# EAGLE library part PUSH_SW_ALT (library mylib2)
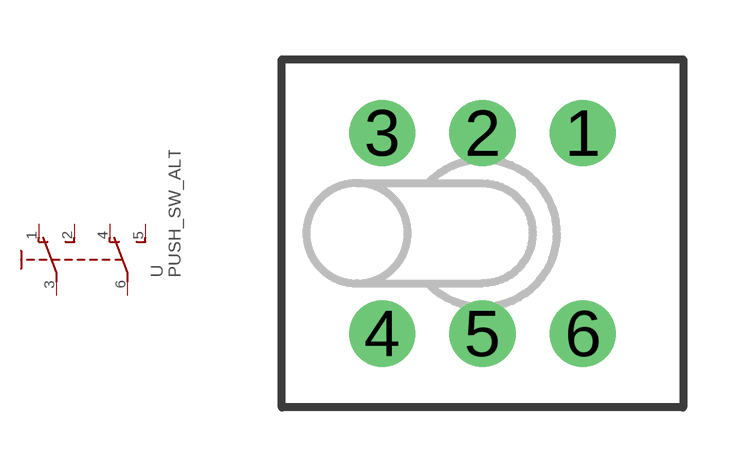
[diagram p9: symbol with the pads of PUSH_SW_ALT; footprint PUSH_SW_ALT]

Designator prefix -

## PUSH_SW_ALT  [PUSH_SW_ALT]
1  O  pas
2  S  pas
3  P  pas
4  O1  pas
5  S1  pas
6  P1  pas

## Footprint PUSH_SW_ALT (pad centres in mm)
drill 1.1 pad 1.676: 1 2.54,2.54; 2 0,2.54; 3 -2.54,2.54; 4 -2.54,-2.54; 5 0,-2.54; 6 2.54,-2.54